# EAGLE library part TSY-1XXLNB+ (library U-MiniCirc-TSY-1XXLNB+-amp)
Low Power, Low Noise, MMIC Amplifier TSY-13LNB+: 0.03 - 1.0 GHz Operational Bandwidth Source: Datasheet <https://www.minicircuits.com/WebStore/dashboard.html?model=TSY-13LNB%2B> TSY-172LNB+: 0.03 - 1.7 GHz Operational Bandwidth Source: Datasheet <https://www.minicircuits.com/WebStore/dashboard.html?model=TSY-172LNB%2B>
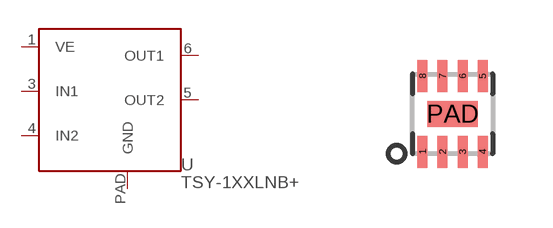
[diagram p0: symbol with the pads of MCLP8-2X2-WITH-PAD; footprint MCLP8-2X2-WITH-PAD]

Designator prefix U

## TSY-1XXLNB+  [MCLP8-2X2-WITH-PAD]
1  VE  in
3  IN1  in
4  IN2  in
5  OUT2  out
6  OUT1  out
PAD  GND  pwr

## Footprint MCLP8-2X2-WITH-PAD (pad centres in mm)
smd 0.25 x 0.8: 1 -0.75,-0.95; 2 -0.25,-0.95; 3 0.25,-0.95; 4 0.75,-0.95; 5 0.75,0.95; 6 0.25,0.95; 7 -0.25,0.95; 8 -0.75,0.95
smd 1.25 x 0.65: PAD 0,0